# EAGLE library part UC3707 (library SKAARHOJ)
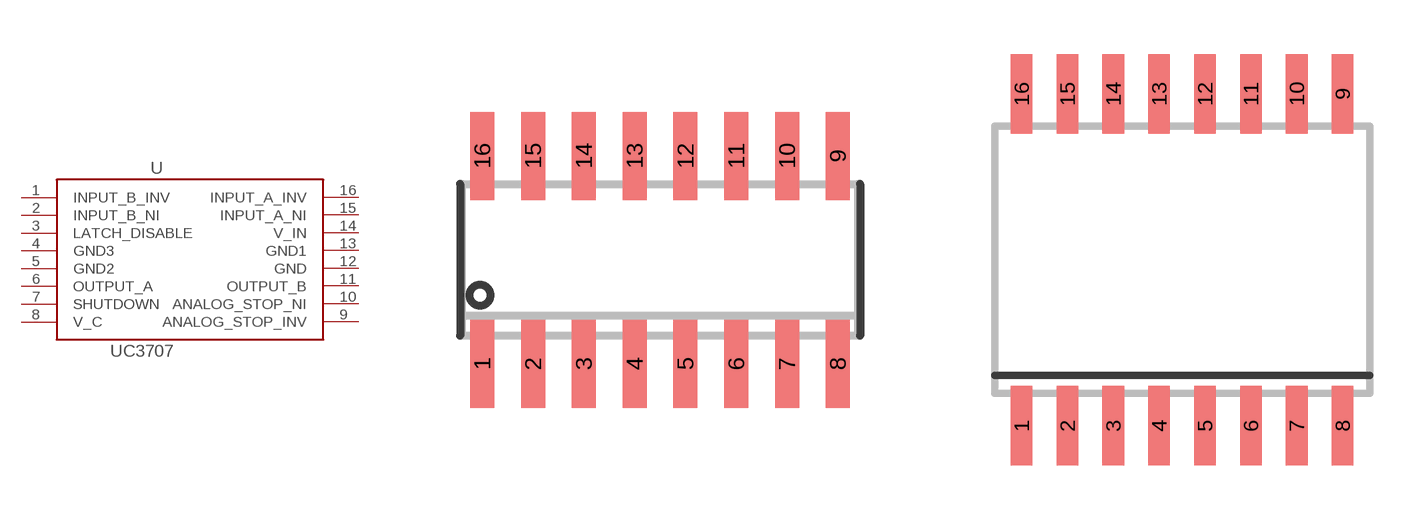
[diagram p43: symbol with the pads of SOIC16; footprints SOIC16, SO-16W]

Designator prefix -

## UC3707  [SOIC16]
1  INPUT_B_INV  in
2  INPUT_B_NI  in
3  LATCH_DISABLE  in
4  GND3  pwr
5  GND2  pwr
6  OUTPUT_A  out
7  SHUTDOWN  in
8  V_C  pwr
9  ANALOG_STOP_INV  in
10  ANALOG_STOP_NI  in
11  OUTPUT_B  out
12  GND  pwr
13  GND1  pwr
14  V_IN  pwr
15  INPUT_A_NI  in
16  INPUT_A_INV  in

## UC3707SOIC16-WIDE  [SO-16W]
Pads as for SOIC16

## Footprint SOIC16 (pad centres in mm)
SMALL OUTLINE INTEGRATED CIRCUIT
smd 0.6 x 2.2: 1 -4.445,-2.6; 2 -3.175,-2.6; 3 -1.905,-2.6; 4 -0.635,-2.6; 5 0.635,-2.6; 6 1.905,-2.6; 7 3.175,-2.6; 8 4.445,-2.6; 9 4.445,2.6; 10 3.175,2.6; 11 1.905,2.6; 12 0.635,2.6; 13 -0.635,2.6; 14 -1.905,2.6; 15 -3.175,2.6; 16 -4.445,2.6

## Footprint SO-16W (pad centres in mm)
16-Lead (Wide Body) Small Outline Package (R-16) Source: http://www.analog.com/UploadedFiles/Data_Sheets/409317160AD421_c.pdf
smd 0.6 x 2.2: 1 -4.445,-4.6; 2 -3.175,-4.6; 3 -1.905,-4.6; 4 -0.635,-4.6; 5 0.635,-4.6; 6 1.905,-4.6; 7 3.175,-4.6; 8 4.445,-4.6; 9 4.445,4.6; 10 3.175,4.6; 11 1.905,4.6; 12 0.635,4.6; 13 -0.635,4.6; 14 -1.905,4.6; 15 -3.175,4.6; 16 -4.445,4.6